# Altium schematic symbol library BRK7010.SCHLIB: 18 symbols
Pins are listed as number, name and electrical type; pins without a type are passive.

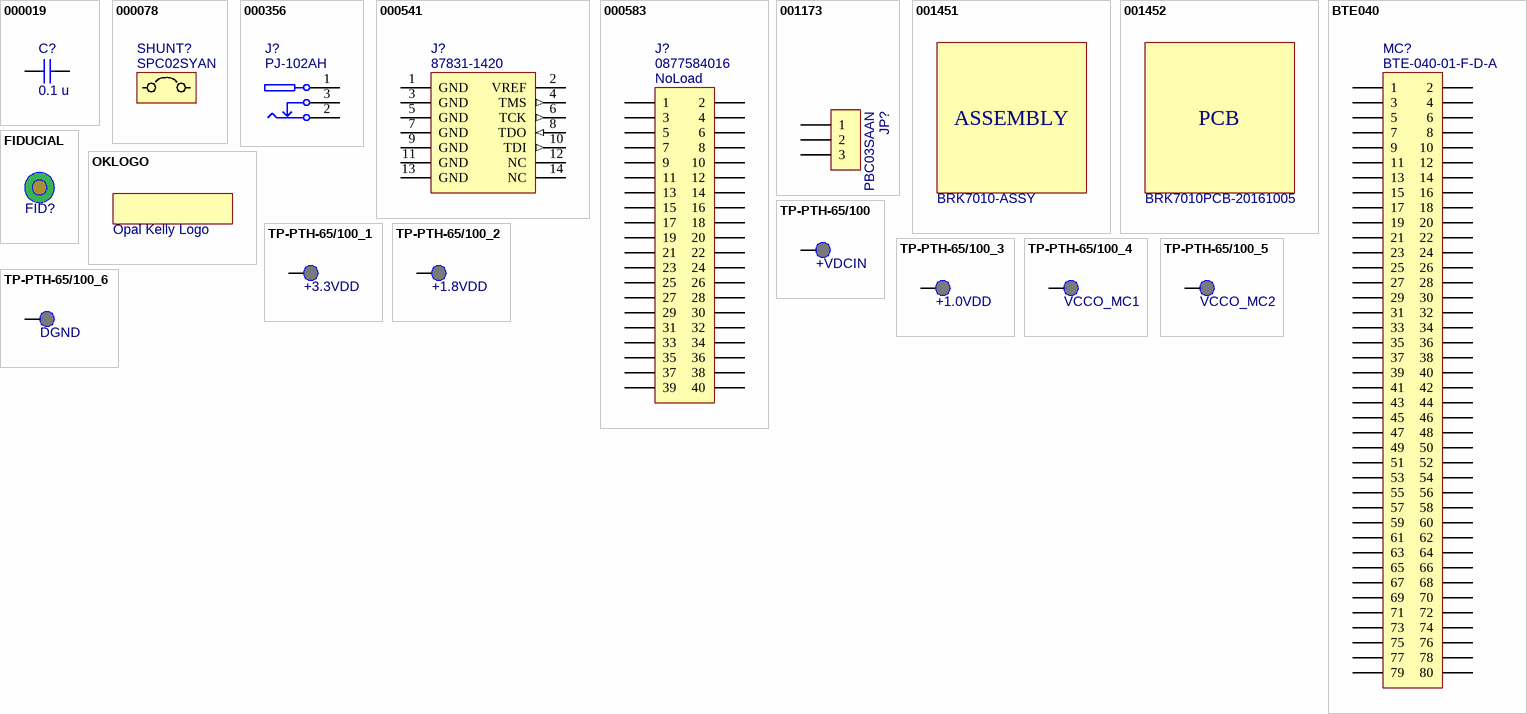
[diagram p0: symbols 000019 to TP-PTH-65/100_6]

## 000019
designator C?, comment value 0.1 u  (hidden comment: C0603C104K4RACTU)
Ceramic capacitor; Manufacturer: Kemet; partnumber: 000019; Description 2: SM-0603, 10%, 16v, X7R; ValueFloat: 1E-7; Manufacturer_PN: C0603C104K4RACTU; updated_on: 11/23/2015 9:32:03 AM
footprint CAPC1608N
pins: 1, 2

## 000078
designator SHUNT?, comment SPC02SYAN  (mechanical)
0.1" shunt; Manufacturer: Sullins Electronics Corp.; partnumber: 000078; Description 2: Gold flash finish; x_lifecycle_status: Production; Manufacturer_PN: SPC02SYAN; updated_on: 7/30/2016 9:01:36 AM

## 000356
designator J?, comment PJ-102AH
DC power connector - high current; Manufacturer: CUI Inc.; partnumber: 000356; Description 2: 2.1mm / 5.5mm; Manufacturer_PN: PJ-102AH; updated_on: 3/10/2016 9:16:59 AM
footprint CUI-PJ102A
pins: 1, 2, 3

## 000541
designator J?, comment 87831-1420
2mm header, shrouded; Manufacturer: Molex; partnumber: 000541; Description 2: Dual-row, 14-pos, Xilinx JTAG compatible; Manufacturer_PN: 87831-1420; updated_on: 9/27/2016 12:10:17 PM
footprint XILINX-JTAG
footprint HDR2X7-2MM
pins: 1 GND (power), 2 VREF (power), 3 GND (power), 4 TMS (out), 5 GND (power), 6 TCK (out), 7 GND (power), 8 TDO (in), 9 GND (power), 10 TDI (out), 11 GND (power), 12 NC, 13 GND (power), 14 NC

## 000583
designator J?, comment 0877584016
2mm header, 20x2, thru-hole; Manufacturer: Molex; partnumber: 000583; Manufacturer_PN: 0877584016; updated_on: 1/24/2015 12:30:40 PM; NoLoad: NoLoad
footprint HDR2X20-2MM
pins: 1, 2, 3, 4, 5, 6, 7, 8, 9, 10, 11, 12, 13, 14, 15, 16, 17, 18, 19, 20, 21, 22, 23, 24, 25, 26, 27, 28, 29, 30, 31, 32, 33, 34, 35, 36, 37, 38, 39, 40

## 001173
designator JP?, comment PBC03SAAN
Single-row header; Manufacturer: Sullins Electronics Corp.; partnumber: 001173; Description 2: Male, 0.1", 3-pos; Manufacturer_PN: PBC03SAAN; updated_on: 1/24/2015 12:32:02 PM
footprint HDR1X3
pins: 1, 2, 3

## 001451
designator ASSY?, comment BRK7010-ASSY  (mechanical)
BRK7010 PCB assembly; Manufacturer: PCB Assembly Cost; partnumber: 001451; Manufacturer_PN: BRK7010-ASSY; updated_on: 10/3/2016 6:18:17 PM
text: ASSEMBLY

## 001452
designator PCB?, comment BRK7010PCB-20161005  (mechanical)
PCB for BRK7010; Manufacturer: Generic PCB Manufacturer; partnumber: 001452; x_lifecycle_status: Prototype; Description 2: 20161005; Manufacturer_PN: BRK7010PCB-20161005; updated_on: 10/5/2016 2:50:10 PM
text: PCB

## BTE040
designator MC?, comment BTE-040-01-F-D-A
0.8mm high-density header; Manufacturer: Samtec; partnumber: 000059; Description 2: 80-pin, Gold flash, Mated height: 5.00mm (0.197 inch); Manufacturer_PN: BTE-040-01-F-D-A; updated_on: 1/18/2016 3:47:24 PM; Supplier 1: Digikey; Supplier Part Number 1: SAM9060-ND
footprint BTE-040
pins: 1, 2, 3, 4, 5, 6, 7, 8, 9, 10, 11, 12, 13, 14, 15, 16, 17, 18, 19, 20, 21, 22, 23, 24, 25, 26, 27, 28, 29, 30, 31, 32, 33, 34, 35, 36, 37, 38, 39, 40, 41, 42, 43, 44, 45, 46, 47, 48, 49, 50, 51, 52, 53, 54, 55, 56, 57, 58, 59, 60, 61, 62, 63, 64, 65, 66, 67, 68, 69, 70, 71, 72, 73, 74, 75, 76, 77, 78, 79, 80

## FIDUCIAL
designator FID?  (value not drawn)
PCB fiducial
footprint FID1MM/2MM-SS (Fiducial 1mm copper, 2mm soldermask, single-side)

## OKLOGO
designator *?, comment Opal Kelly Logo
footprint okLogo-23x5 (Opal Kelly silkscreen logo (23mm x 5mm))
footprint okLogo-30x6 (Opal Kelly silkscreen logo (30mm x 6mm))
footprint okLogo-60x13 (Opal Kelly silkscreen logo (60mm x 13mm))

## TP-PTH-65/100
designator TP?, comment +VDCIN
Test point, plated through-hole, 65/100mil
footprint TP-PTH-65/100 (Testpoint, Plated Through-Hole, 65mil/100mil)
pins: 1 PIN

## TP-PTH-65/100_1
designator TP?, comment +3.3VDD
Test point, plated through-hole, 65/100mil
footprint TP-PTH-65/100 (Testpoint, Plated Through-Hole, 65mil/100mil)
pins: 1 PIN

## TP-PTH-65/100_2
designator TP?, comment +1.8VDD
Test point, plated through-hole, 65/100mil
footprint TP-PTH-65/100 (Testpoint, Plated Through-Hole, 65mil/100mil)
pins: 1 PIN

## TP-PTH-65/100_3
designator TP?, comment +1.0VDD
Test point, plated through-hole, 65/100mil
footprint TP-PTH-65/100 (Testpoint, Plated Through-Hole, 65mil/100mil)
pins: 1 PIN

## TP-PTH-65/100_4
designator TP?, comment VCCO_MC1
Test point, plated through-hole, 65/100mil
footprint TP-PTH-65/100 (Testpoint, Plated Through-Hole, 65mil/100mil)
pins: 1 PIN

## TP-PTH-65/100_5
designator TP?, comment VCCO_MC2
Test point, plated through-hole, 65/100mil
footprint TP-PTH-65/100 (Testpoint, Plated Through-Hole, 65mil/100mil)
pins: 1 PIN

## TP-PTH-65/100_6
designator TP?, comment DGND
Test point, plated through-hole, 65/100mil
footprint TP-PTH-65/100 (Testpoint, Plated Through-Hole, 65mil/100mil)
pins: 1 PIN